# Altium schematic symbol library TC1107.SchLib: 1 symbol
Pins are listed as number, name and electrical type; pins without a type are passive.

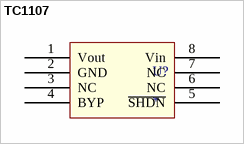
[diagram p0: symbol TC1107]

## TC1107
designator U?
pins: 1 Vout, 2 GND, 3 NC, 4 BYP, 5 ~{SHDN}, 6 NC, 7 NC, 8 Vin